# EAGLE library part CH340C (library Diplomarbeit)
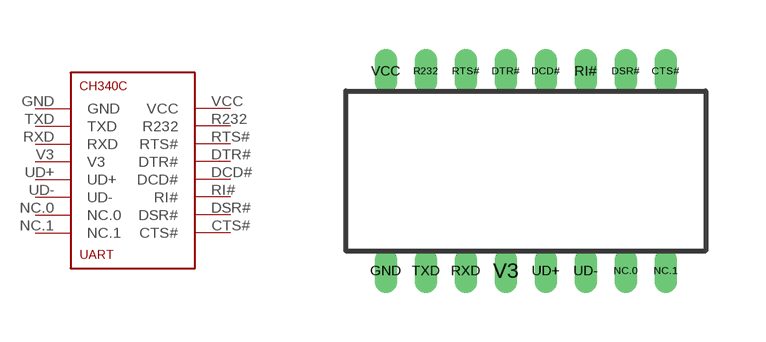
[diagram p5: symbol with the pads of CH340C; footprint CH340C]

Designator prefix -

## CH340C  [CH340C]
CTS#  CTS#
DCD#  DCD#
DSR#  DSR#
DTR#  DTR#
GND  GND
NC.0  NC.0
NC.1  NC.1
R232  R232
RI#  RI#
RTS#  RTS#
RXD  RXD
TXD  TXD
UD+  UD+
UD-  UD-
V3  V3
VCC  VCC

## Footprint CH340C (pad centres in mm)
drill 0.05 pad 0.23 long: CTS# 3.5,2.5; DCD# 0.5,2.5; DSR# 2.5,2.5; DTR# -0.5,2.5; GND -3.5,-2.5; NC.0 2.5,-2.5; NC.1 3.5,-2.5; R232 -2.5,2.5; RI# 1.5,2.5; RTS# -1.5,2.5; RXD -1.5,-2.5; TXD -2.5,-2.5; UD+ 0.5,-2.5; UD- 1.5,-2.5; V3 -0.5,-2.5; VCC -3.5,2.5